# EAGLE library part SATA-POWER-V1 (library SATA-TH-SWM-V2)
SATA with power
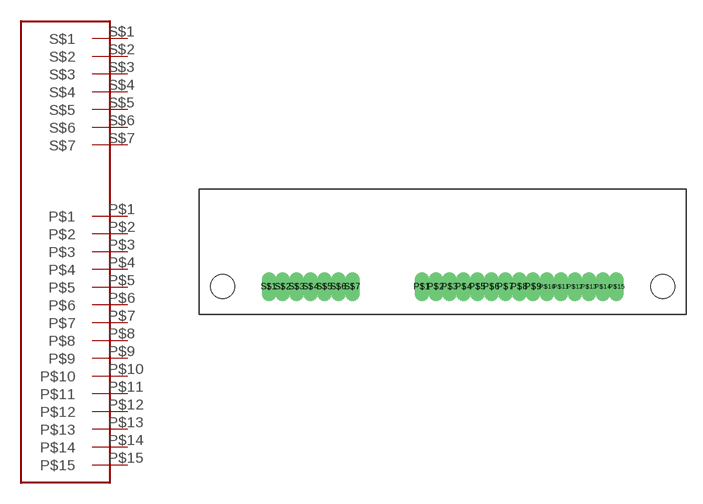
[diagram p2: symbol with the pads of SATA-POWER-V1; footprint SATA-POWER-V1]

Designator prefix -

## SATA-POWER-V1  [SATA-POWER-V1]
P$1  P$1
P$2  P$2
P$3  P$3
P$4  P$4
P$5  P$5
P$6  P$6
P$7  P$7
P$8  P$8
P$9  P$9
P$10  P$10
P$11  P$11  nc
P$12  P$12
P$13  P$13
P$14  P$14
P$15  P$15
S$1  S$1
S$2  S$2
S$3  S$3
S$4  S$4
S$5  S$5
S$6  S$6
S$7  S$7

## Footprint SATA-POWER-V1 (pad centres in mm)
drill 0.8 pad 1.016 long: P$1 0,0; P$2 1.27,0; P$3 2.54,0; P$4 3.81,0; P$5 5.08,0; P$6 6.35,0; P$7 7.62,0; P$8 8.89,0; P$9 10.16,0; P$10 11.43,0; P$11 12.7,0; P$12 13.97,0; P$13 15.24,0; P$14 16.51,0; P$15 17.78,0; S$1 -13.97,0; S$2 -12.7,0; S$3 -11.43,0; S$4 -10.16,0; S$5 -8.89,0; S$6 -7.62,0; S$7 -6.35,0
hole 2.2 at -18.202,0
hole 2.2 at 22.013,0